# Altium footprint library SDP21_Main_Board_PCB_Library.PcbLib: 4 footprints
Each footprint in its own frame and in the unit in brackets; x right, y up, seen from the top. Pads: shape width x height; smd on the part's side, far side on the other; paste and mask are expansions set on the pad; w line width, h text height; cw(c..) or ccw(c..) is an arc to the next point about the centre after c.
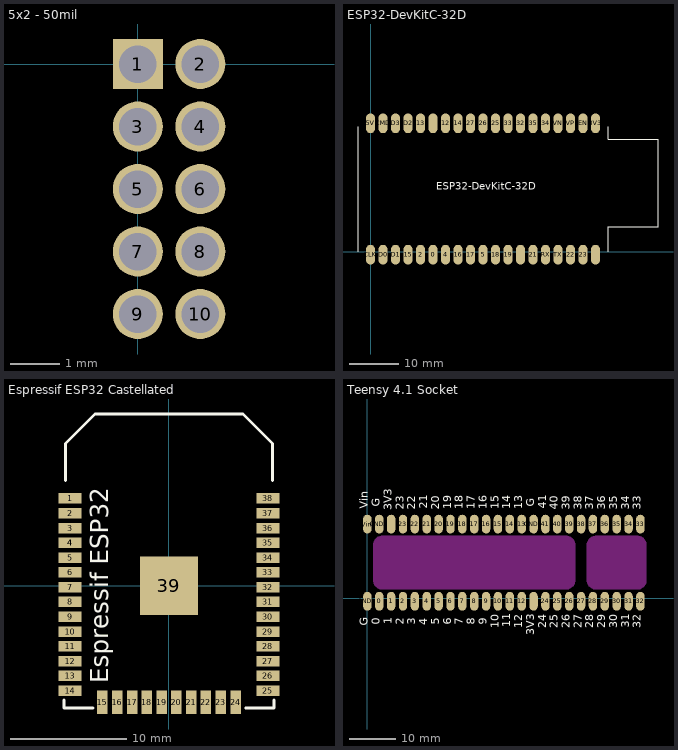
[diagram p0: the footprints below, top view; thin cyan lines are the x and y axes]

## 5x2 - 50mil [mil]
pads (10):
  rect 40x40 hole 30: 1(0,0)
  round 40 hole 30: 2(50,0) 3(0,-50) 4(50,-50) 5(0,-100) 6(50,-100) 7(0,-150) 8(50,-150) 9(0,-200) 10(50,-200)

## ESP32-DevKitC-32D [mm]
pads (38):
  rrect100% 1.8x4 smd: 0(12.7,-0.635) 2(10.16,-0.635) 3V3(45.72,26.035) 4(15.24,-0.635) 5(22.86,-0.635) 5V(0,26.035) 12(15.24,26.035) 13(10.16,26.035) 14(17.78,26.035) 15(7.62,-0.635) 16(17.78,-0.635) 17(20.32,-0.635) 18(25.4,-0.635) 19(27.94,-0.635) 21(33.02,-0.635) 22(40.64,-0.635) 23(43.18,-0.635) 25(25.4,26.035) 26(22.86,26.035) 27(20.32,26.035) 32(30.48,26.035) 33(27.94,26.035) 34(35.56,26.035) 35(33.02,26.035) CLK(0,-0.635) CMD(2.54,26.035) D0(2.54,-0.635) D1(5.08,-0.635) D2(7.62,26.035) D3(5.08,26.035) EN(43.18,26.035) GND-1(30.48,-0.635) GND-2(45.72,-0.635) GND-3(12.7,26.035) RX(35.56,-0.635) TX(38.1,-0.635) VN(38.1,26.035) VP(40.64,26.035)
Top Overlay:
  lines w0.254: -2.54,0 -2.54,25.4 ; 48.26,0 48.26,5.08 58.42,5.08 58.42,22.86 48.26,22.86 48.26,25.4
  text "ESP32-DevKitC-32D" at 13.316,12.056 h2.54

## Espressif ESP32 Castellated [mm]
pads (40):
  rect 2x0.9 smd: 1(-8.5,7.5) 2(-8.5,6.23) 3(-8.5,4.96) 4(-8.5,3.69) 4(-8.5,3.69) 5(-8.5,2.42) 6(-8.5,1.15) 7(-8.5,-0.12) 8(-8.5,-1.39) 9(-8.5,-2.66) 10(-8.5,-3.93) 11(-8.5,-5.2) 12(-8.5,-6.47) 13(-8.5,-7.74) 14(-8.5,-9.01) 25(8.5,-9.01) 26(8.5,-7.74) 27(8.5,-6.47) 28(8.5,-5.2) 29(8.5,-3.93) 30(8.5,-2.66) 31(8.5,-1.39) 32(8.5,-0.12) 33(8.5,1.15) 34(8.5,2.42) 35(8.5,3.69) 36(8.5,4.96) 37(8.5,6.23) 38(8.5,7.5)
  rect 0.9x2 smd: 15(-5.715,-10.01) 16(-4.445,-10.01) 17(-3.175,-10.01) 18(-1.905,-10.01) 19(-0.635,-10.01) 20(0.635,-10.01) 21(1.905,-10.01) 22(3.175,-10.01) 23(4.445,-10.01) 24(5.715,-10.01)
  rect 5x5 smd: 39(0,0)
Top Overlay:
  lines w0.254: -9,-9.8 -9,-10.51 -6.71,-10.51 -6.51,-10.51 ; -8.89,9.04 -8.89,12.215 -6.35,14.755 6.35,14.755 8.89,12.215 8.89,9.04 ; 6.59,-10.51 9,-10.51 9,-9.8
  text "Espressif ESP32" at -5.207,-8.363 h1.52

## Teensy 4.1 Socket [mm]
pads (48):
  rrect100% 1.8x4 smd: 0(2.54,-0.635) 1(5.08,-0.635) 2(7.62,-0.635) 3(10.16,-0.635) 3.3-1(35.56,-0.635) 3.3-2(5.08,15.875) 4(12.7,-0.635) 5(15.24,-0.635) 6(17.78,-0.635) 7(20.32,-0.635) 8(22.86,-0.635) 9(25.4,-0.635) 10(27.94,-0.635) 11(30.48,-0.635) 12(33.02,-0.635) 13(33.02,15.875) 14(30.48,15.875) 15(27.94,15.875) 16(25.4,15.875) 17(22.86,15.875) 18(20.32,15.875) 19(17.78,15.875) 20(15.24,15.875) 21(12.7,15.875) 22(10.16,15.875) 23(7.62,15.875) 24(38.1,-0.635) 25(40.64,-0.635) 26(43.18,-0.635) 27(45.72,-0.635) 28(48.26,-0.635) 29(50.8,-0.635) 30(53.34,-0.635) 31(55.88,-0.635) 32(58.42,-0.635) 33(58.42,15.875) 34(55.88,15.875) 35(53.34,15.875) 36(50.8,15.875) 37(48.26,15.875) 38(45.72,15.875) 39(43.18,15.875) 40(40.64,15.875) 41(38.1,15.875) GND1(0,-0.635) GND2(35.56,15.875) GND3(2.54,15.875) Vin(0,15.875)
Top Overlay:
  text "32" at 59.181,-6.415 h3
  text "31" at 56.641,-6.275 h3
  text "30" at 54.101,-6.418 h3
  text "29" at 51.561,-6.425 h3
  text "28" at 49.021,-6.428 h3
  text "27" at 46.493,-6.426 h3
  text "26" at 43.941,-6.433 h3
  text "25" at 41.401,-6.429 h3
  text "24" at 38.873,-6.45 h3
  text "3V3" at 36.321,-7.88 h3
  text "12" at 33.793,-6.365 h3
  text "11" at 31.253,-6.225 h3
  text "10" at 28.701,-6.368 h3
  text "9" at 26.161,-5.706 h3
  text "8" at 23.621,-5.703 h3
  text "7" at 21.081,-5.698 h3
  text "6" at 18.541,-5.707 h3
  text "5" at 15.988,-5.713 h3
  text "4" at 13.473,-5.746 h3
  text "3" at 10.921,-5.709 h3
  text "2" at 8.393,-5.716 h3
  text "1" at 5.853,-5.516 h3
  text "0" at 3.301,-5.703 h3
  text "G" at 0.761,-5.856 h3
  text "33" at 59.181,18.982 h3
  text "34" at 56.641,18.96 h3
  text "35" at 54.101,18.98 h3
  text "36" at 51.561,18.976 h3
  text "37" at 49.021,18.983 h3
  text "38" at 46.481,18.982 h3
  text "39" at 43.941,18.985 h3
  text "40" at 41.401,18.967 h3
  text "41" at 38.873,19.11 h3
  text "G" at 36.321,19.544 h3
  text "13" at 33.781,19.032 h3
  text "14" at 31.253,19.01 h3
  text "15" at 28.701,19.03 h3
  text "16" at 26.161,19.026 h3
  text "17" at 23.633,19.033 h3
  text "18" at 21.081,19.032 h3
  text "19" at 18.541,19.035 h3
  text "20" at 16.001,18.972 h3
  text "21" at 13.473,19.115 h3
  text "22" at 10.933,18.975 h3
  text "23" at 8.381,18.972 h3
  text "3V3" at 5.841,18.79 h3
  text "G" at 3.301,19.544 h3
  text "Vin" at 0.761,19.13 h3
Keep-Out Layer:
  board cut-out: 46.99,3.81 46.99,3.622 47.063,3.254 47.207,2.908 47.415,2.596 47.681,2.33 47.993,2.122 48.339,1.978 48.707,1.905 48.895,1.905 57.785,1.905 57.973,1.905 58.341,1.978 58.687,2.122 58.999,2.33 59.265,2.596 59.473,2.908 59.617,3.254 59.69,3.622 59.69,3.81 59.69,11.43 59.69,11.618 59.617,11.986 59.473,12.332 59.265,12.644 58.999,12.91 58.687,13.118 58.341,13.262 57.973,13.335 57.785,13.335 48.895,13.335 48.707,13.335 48.339,13.262 47.993,13.118 47.681,12.91 47.415,12.644 47.207,12.332 47.063,11.986 46.99,11.618 46.99,11.43
  board cut-out: 1.27,3.81 1.27,11.43 1.27,11.618 1.343,11.986 1.487,12.332 1.695,12.644 1.961,12.91 2.273,13.118 2.619,13.262 2.987,13.335 3.175,13.335 42.545,13.335 42.733,13.335 43.101,13.262 43.447,13.118 43.759,12.91 44.025,12.644 44.233,12.332 44.377,11.986 44.45,11.618 44.45,11.43 44.45,3.81 44.45,3.622 44.377,3.254 44.233,2.908 44.025,2.596 43.759,2.33 43.447,2.122 43.101,1.978 42.733,1.905 42.545,1.905 3.175,1.905 2.987,1.905 2.619,1.978 2.273,2.122 1.961,2.33 1.695,2.596 1.487,2.908 1.343,3.254 1.27,3.622